# Altium footprint library Weerstation1.PcbLib: 25 footprints (part 2 of 2)
Each footprint in its own frame and in the unit in brackets; x right, y up, seen from the top. Pads: shape width x height; smd on the part's side, far side on the other; paste and mask are expansions set on the pad; w line width, h text height; cw(c..) or ccw(c..) is an arc to the next point about the centre after c.
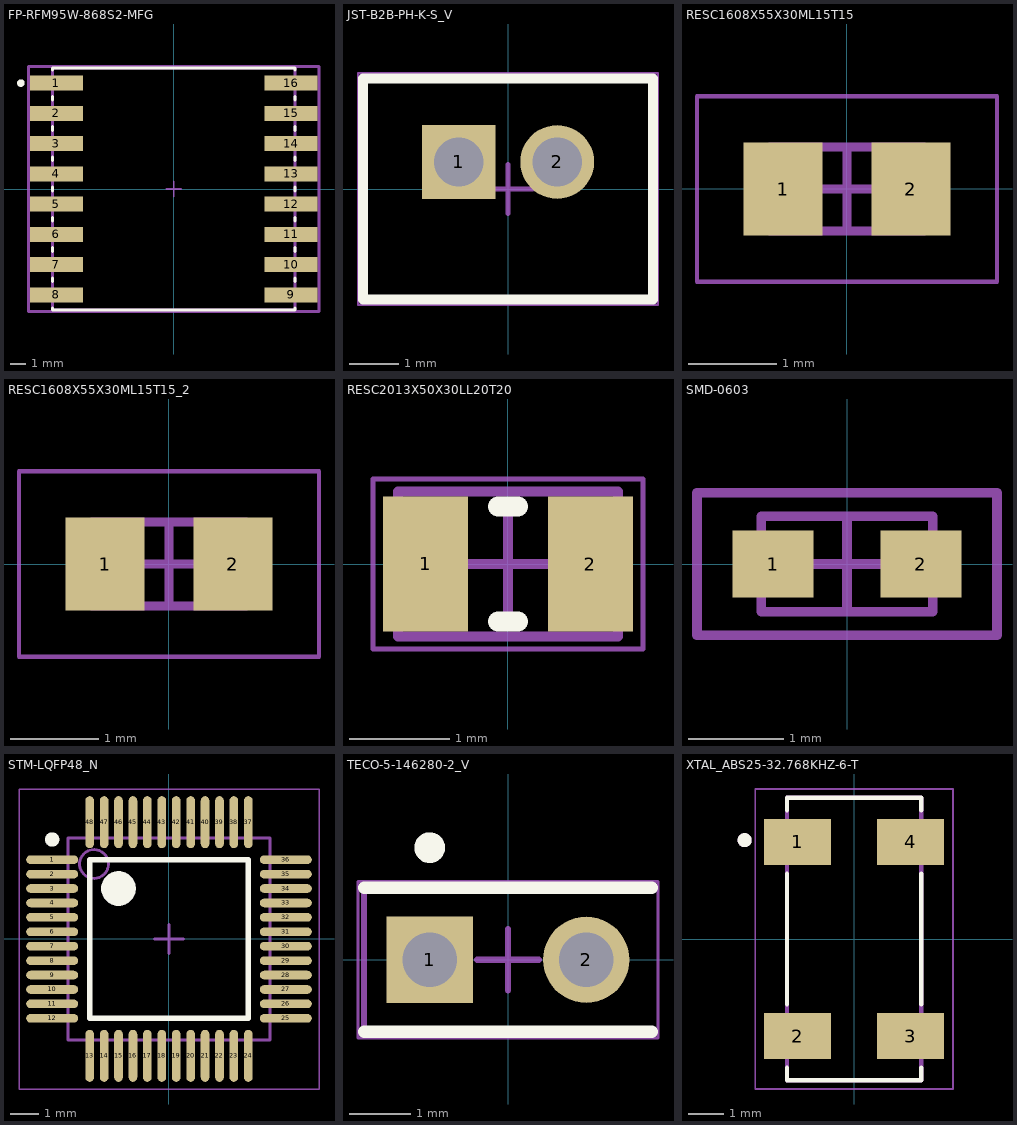
[diagram p1: the footprints below, top view; thin cyan lines are the x and y axes]

## FP-RFM95W-868S2-MFG [mm]
pads (16):
  rect 3.5x1 smd paste+0 mask+0: 1(-7.75,7) 2(-7.75,5) 3(-7.75,3) 4(-7.75,1) 5(-7.75,-1) 6(-7.75,-3) 7(-7.75,-5) 8(-7.75,-7) 9(7.75,-7) 10(7.75,-5) 11(7.75,-3) 12(7.75,-1) 13(7.75,1) 14(7.75,3) 15(7.75,5) 16(7.75,7)
Top Overlay:
  circle w0.25: c-10.1,7 r0.125
  lines w0.2: -8,-7.875 -8,-8 8,-8 8,-7.875 ; -8,-6.125 -8,-5.875 ; -8,-4.125 -8,-3.875 ; -8,-2.125 -8,-1.875 ; -8,-0.125 -8,0.125 ; -8,1.875 -8,2.125 ; -8,3.875 -8,4.125 ; -8,5.875 -8,6.125 ; -8,7.875 -8,8 8,8 8,7.875 ; 8,-6.125 8,-5.875 ; 8,-4.125 8,-3.875 ; 8,-2.125 8,-1.875 ; 8,-0.125 8,0.125 ; 8,1.875 8,2.125 ; 8,3.875 8,4.125 ; 8,5.875 8,6.125
Mechanical 2:
  lines w0.2: -8,-8 -8,8 8,8 8,-8 -8,-8
Mechanical 4:
  lines w0.2: -9.6,-8.1 -9.6,8.1 9.6,8.1 9.6,-8.1 -9.6,-8.1
Mechanical 6:
  lines w0.2: -9.6,-8.1 -9.6,8.1 9.6,8.1 9.6,-8.1 -9.6,-8.1
  text ".Designator" at 0,-0.188 h1
Mechanical 8:
  lines w0.1: -0.5,0 0.5,0 ; 0,-0.5 0,0.5
3D body "UNK_RF_Solutions_RFM95W-868S2_eec.STEP": height 0.25, standoff 0, extent -9.6,-8.1 9.6,8.1

## JST-B2B-PH-K-S_V [mm] "Connector, 2-Leads, Body 5.9x4.5mm, Pitch 2mm"
height 6
pads (2):
  rect 1.5x1.5 hole 1: 1(-1,0.55)
  round 1.5 hole 1: 2(1,0.55)
Top Overlay:
  lines w0.2: -2.95,-2.25 -2.95,2.25 2.95,2.25 2.95,-2.25 -2.95,-2.25
Mechanical 13:
  lines w0.1: -2.95,-2.25 2.95,-2.25 2.95,2.25 -2.95,2.25 -2.95,-2.25
Mechanical 15:
  lines w0.05: -3.05,-2.35 3.05,-2.35 3.05,2.35 -3.05,2.35 -3.05,-2.35
  lines w0.1: -0.5,0 0.5,0 ; 0,-0.5 0,0.5
3D body: height 6, standoff 0, extent -2.949,-2.249 2.949,2.249
3D body: height 0, standoff -3.4, extent -1.249,0.301 -0.751,0.799
3D body: height 0, standoff -3.4, extent 0.75,0.301 1.249,0.8

## RESC1608X55X30ML15T15 [mm] "Chip Resistor, 2-Leads, Body 1.60x0.80mm, IPC Low Density"
height 0.55
pads (2):
  rect 0.9x1.05 smd: 1(-0.725,0) 2(0.725,0)
Mechanical 13:
  lines w0.1: -0.875,-0.475 0.875,-0.475 0.875,0.475 -0.875,0.475 -0.875,-0.475
Mechanical 15:
  lines w0.05: -1.7,-1.05 1.7,-1.05 1.7,1.05 -1.7,1.05 -1.7,-1.05
  lines w0.1: -0.475,0 0.475,0 ; 0,-0.475 0,0.475
3D body: height 0.55, standoff 0, extent 0.575,-0.475 0.875,0.475
3D body: height 0.55, standoff 0, extent -0.875,-0.475 -0.575,0.475
3D body: height 0.55, standoff 0, extent -0.575,-0.475 0.575,0.475

## RESC1608X55X30ML15T15_2 [mm]
pads (2):
  rect 0.9x1.05 smd: 1(-0.725,0) 2(0.725,0)
Mechanical 13:
  lines w0.1: -0.875,-0.475 0.875,-0.475 0.875,0.475 -0.875,0.475 -0.875,-0.475
Mechanical 15:
  lines w0.05: -1.7,-1.05 1.7,-1.05 1.7,1.05 -1.7,1.05 -1.7,-1.05
  lines w0.1: -0.475,0 0.475,0 ; 0,-0.475 0,0.475
3D body: height 0.55, standoff 0, extent 0.575,-0.475 0.875,0.475
3D body: height 0.55, standoff 0, extent -0.875,-0.475 -0.575,0.475
3D body: height 0.55, standoff 0, extent -0.575,-0.475 0.575,0.475

## RESC2013X50X30LL20T20 [mm] "Chip Resistor, 2-Leads, Body 2.00x1.25mm, IPC High Density"
height 0.5
pads (2):
  rect 0.85x1.35 smd: 1(-0.825,0) 2(0.825,0)
Top Overlay:
  lines w0.2: -0.1,-0.575 0.1,-0.575 ; -0.1,0.575 0.1,0.575
Mechanical 13:
  lines w0.1: -1.1,-0.725 -1.1,0.725 1.1,0.725 1.1,-0.725 -1.1,-0.725
Mechanical 15:
  lines w0.05: -1.35,-0.85 -1.35,0.85 1.35,0.85 1.35,-0.85 -1.35,-0.85
  lines w0.1: -0.5,0 0.5,0 ; 0,-0.5 0,0.5
3D body: height 0.5, standoff 0, extent 0.8,-0.725 1.1,0.725
3D body: height 0.5, standoff 0, extent -1.1,-0.725 -0.8,0.725
3D body: height 0.5, standoff 0, extent -0.8,-0.725 0.8,0.725

## SMD-0603 [mm] "Chip Inductor, 2-Leads, Body 1.6x0.8mm"
height 0.95
pads (2):
  rect 0.85x0.7 smd: 1(-0.775,0) 2(0.775,0)
Mechanical 13:
  lines w0.1: -0.9,-0.5 0.9,-0.5 0.9,0.5 -0.9,0.5 -0.9,-0.5
Mechanical 15:
  lines w0.1: -0.5,0 0.5,0 ; 0,-0.5 0,0.5 ; -1.575,-0.75 1.575,-0.75 1.575,0.75 -1.575,0.75 -1.575,-0.75
3D body "742792623.stp": height 0.79, standoff -0.01, extent -0.8,-0.4 0.8,0.401

## STM-LQFP48_N [mm] "QFP, 48-Leads, Body 7x7mm, Pitch 0.5mm, IPC Medium Density"
height 1.6
pads (48):
  oval 1.8x0.3 smd: 1(-4.05,2.75) 2(-4.05,2.25) 3(-4.05,1.75) 4(-4.05,1.25) 5(-4.05,0.75) 6(-4.05,0.25) 7(-4.05,-0.25) 8(-4.05,-0.75) 9(-4.05,-1.25) 10(-4.05,-1.75) 11(-4.05,-2.25) 12(-4.05,-2.75) 25(4.05,-2.75) 26(4.05,-2.25) 27(4.05,-1.75) 28(4.05,-1.25) 29(4.05,-0.75) 30(4.05,-0.25) 31(4.05,0.25) 32(4.05,0.75) 33(4.05,1.25) 34(4.05,1.75) 35(4.05,2.25) 36(4.05,2.75)
  oval 0.3x1.8 smd: 13(-2.75,-4.05) 14(-2.25,-4.05) 15(-1.75,-4.05) 16(-1.25,-4.05) 17(-0.75,-4.05) 18(-0.25,-4.05) 19(0.25,-4.05) 20(0.75,-4.05) 21(1.25,-4.05) 22(1.75,-4.05) 23(2.25,-4.05) 24(2.75,-4.05) 37(2.75,4.05) 38(2.25,4.05) 39(1.75,4.05) 40(1.25,4.05) 41(0.75,4.05) 42(0.25,4.05) 43(-0.25,4.05) 44(-0.75,4.05) 45(-1.25,4.05) 46(-1.75,4.05) 47(-2.25,4.05) 48(-2.75,4.05)
Top Overlay:
  circle w0.6: c-1.75,1.75 r0.3
  circle w0.25: c-4.05,3.45 r0.125
  lines w0.2: -2.75,-2.75 2.75,-2.75 2.75,2.75 -2.75,2.75 -2.75,-2.75
Mechanical 13:
  circle w0.1: c-2.6,2.6 r0.5
  lines w0.1: -3.5,-3.5 3.5,-3.5 3.5,3.5 -3.5,3.5 -3.5,-3.5
Mechanical 15:
  lines w0.05: -5.2,-5.2 5.2,-5.2 5.2,5.2 -5.2,5.2 -5.2,-5.2
  lines w0.1: -0.5,0 0.5,0 ; 0,-0.5 0,0.5
3D body: height 1.6, standoff 0.05, extent -3.5,-3.5 3.5,3.5

## TECO-5-146280-2_V [mm] "Connector, 2-Leads, Body 4.67x2.34mm, Pitch 2.54mm"
height 8.21
pads (2):
  rect 1.4x1.4 hole 0.89: 1(-1.27,0)
  round 1.4 hole 0.89: 2(1.27,0)
Top Overlay:
  circle w0.25: c-1.27,1.82 r0.125
  lines w0.2: -2.335,-1.17 2.335,-1.17 ; -2.335,1.17 2.335,1.17
Mechanical 13:
  lines w0.1: 2.335,-1.17 -2.335,-1.17 -2.335,1.17 2.335,1.17
Mechanical 15:
  lines w0.05: -2.435,-1.27 2.435,-1.27 2.435,1.27 -2.435,1.27 -2.435,-1.27
  lines w0.1: -0.5,0 0.5,0 ; 0,-0.5 0,0.5
3D body "c-5-146280-2-d-3d.stp": height 5.33, standoff -5.84, extent -2.337,-1.168 2.337,1.169

## XTAL_ABS25-32.768KHZ-6-T [mm]
pads (4):
  rect 1.9x1.3 smd: 1(-1.6,2.75) 2(-1.6,-2.75) 3(1.6,-2.75) 4(1.6,2.75)
Top Overlay:
  circle w0.2: c-3.1,2.8 r0.1
  lines w0.127: -1.9,-3.65 -1.9,-4 1.9,-4 1.9,-3.65 ; -1.9,-1.85 -1.9,1.85 ; -1.9,3.65 -1.9,4 1.9,4 1.9,3.65 ; 1.9,-1.85 1.9,1.85
Mechanical 13:
  circle w0.2: c-3.1,2.8 r0.1
  lines w0.127: -1.9,-4 -1.9,4 1.9,4 1.9,-4 -1.9,-4
Mechanical 15:
  lines w0.05: -2.8,-4.25 -2.8,4.25 2.8,4.25 2.8,-4.25 -2.8,-4.25